# Altium footprint library PcbLib2.PcbLib: 7 footprints
Each footprint in its own frame and in the unit in brackets; x right, y up, seen from the top. Pads: shape width x height; smd on the part's side, far side on the other; paste and mask are expansions set on the pad; w line width, h text height; cw(c..) or ccw(c..) is an arc to the next point about the centre after c.
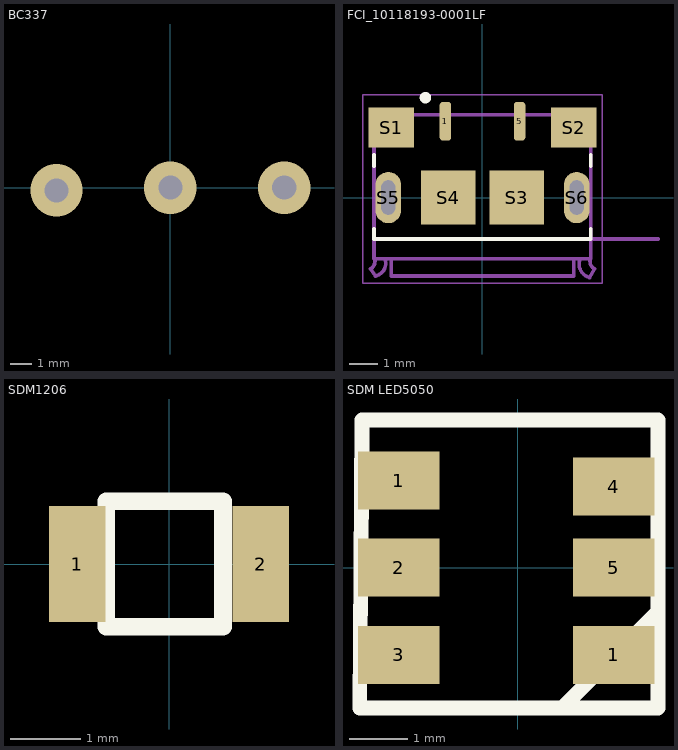
[diagram p0: the footprints below, top view; thin cyan lines are the x and y axes]

## BC337 [mm]
via -5.207,-0.127 diameter 2.4 hole 1.1
via 5.207,0 diameter 2.4 hole 1.1
via 0,0 diameter 2.4 hole 1.1
Multi-Layer:
  region: -6.921,-1.143 -6.921,0.889 -6.921,1.002 -6.877,1.222 -6.791,1.43 -6.666,1.618 -6.507,1.777 -6.32,1.902 -6.112,1.988 -5.891,2.032 -5.778,2.032 -4.635,2.032 -4.535,2.032 -4.339,1.993 -4.154,1.916 -3.988,1.805 -3.846,1.664 -3.735,1.497 -3.659,1.312 -3.62,1.116 -3.62,1.016 -3.619,-1.016 -3.619,-1.141 -3.668,-1.386 -3.764,-1.617 -3.903,-1.826 -4.08,-2.002 -4.288,-2.141 -4.519,-2.237 -4.764,-2.286 -4.89,-2.286 -5.778,-2.286 -5.891,-2.286 -6.112,-2.242 -6.32,-2.156 -6.507,-2.031 -6.666,-1.872 -6.791,-1.684 -6.878,-1.476 -6.921,-1.256
  region: 3.493,-1.016 3.493,1.016 3.493,1.129 3.537,1.349 3.623,1.557 3.748,1.745 3.907,1.904 4.094,2.029 4.302,2.115 4.523,2.159 4.636,2.159 5.779,2.159 5.879,2.159 6.075,2.12 6.26,2.043 6.426,1.932 6.568,1.791 6.679,1.624 6.755,1.439 6.794,1.243 6.794,1.143 6.795,-0.889 6.795,-1.014 6.746,-1.259 6.65,-1.49 6.511,-1.699 6.334,-1.875 6.126,-2.014 5.895,-2.11 5.65,-2.159 5.524,-2.159 4.636,-2.159 4.523,-2.159 4.302,-2.115 4.094,-2.029 3.907,-1.904 3.748,-1.745 3.623,-1.557 3.536,-1.349 3.493,-1.129
  region: -1.714,-1.016 -1.714,1.016 -1.714,1.129 -1.67,1.349 -1.584,1.557 -1.459,1.745 -1.3,1.904 -1.113,2.029 -0.905,2.115 -0.684,2.159 -0.571,2.159 0.572,2.159 0.672,2.159 0.868,2.12 1.053,2.043 1.219,1.932 1.361,1.791 1.472,1.624 1.548,1.439 1.587,1.243 1.587,1.143 1.588,-0.889 1.588,-1.014 1.539,-1.259 1.443,-1.49 1.304,-1.699 1.127,-1.875 0.919,-2.014 0.688,-2.11 0.443,-2.159 0.317,-2.159 -0.571,-2.159 -0.684,-2.159 -0.905,-2.115 -1.113,-2.029 -1.3,-1.904 -1.459,-1.745 -1.584,-1.557 -1.671,-1.349 -1.714,-1.129

## FCI_10118193-0001LF [mm]
pads (10):
  rrect50% 0.4x1.35 smd: 1(-1.3,2.675) 5(1.3,2.675)
  rect 1.6x1.4 smd: S1(-3.2,2.45) S2(3.2,2.45)
  rect 1.9x1.9 smd: S3(1.2,0) S4(-1.2,0)
  oval 0.9x1.8 hole 0.5 slot 1.2 at 90 deg: S5(-3.3,0) S6(3.3,0)
  round 0.5 hole 0.5 unplated: ""(-3.3,0) ""(3.3,0)
Top Overlay:
  circle w0.2: c-2,3.5 r0.1
  lines w0.127: -3.8,-1.45 3.8,-1.45 ; -3.8,-1.4 -3.8,-1.1 ; -3.8,1.1 -3.8,1.5 ; 3.8,-1.4 3.8,-1.1 ; 3.8,1.1 3.8,1.5
Mechanical 13:
  lines w0.127: -3.93,-2.5 -3.75,-2.75 ; -3.93,-2.5 ccw(c-4.065,-2.235) -3.8,-2.1 ; -3.746,-2.749 ccw(c-3.85,-2.3) -3.401,-2.196 ; -3.2,-2.2 -3.2,-2.75 3.2,-2.75 3.2,-2.2 ; 3.401,-2.198 ccw(c3.875,-2.325) 3.748,-2.799 ; 3.75,-2.8 3.93,-2.5 ; 3.8,-2.1 ccw(c4.065,-2.235) 3.93,-2.5 ; 6.15,-1.45 3.8,-1.45 ; -3.8,-2.1 -3.8,-2.15 3.8,-2.15 3.8,-1.45 ; -3.8,-2.1 -3.8,2.9 3.8,2.9 3.8,-1.45
  text "PCB END" at 4.75,-1.3 h0.41
Mechanical 15:
  lines w0.05: -4.2,-3 -4.2,3.6 4.2,3.6 4.2,-3 -4.2,-3
3D body "USB3075-30-A--3DModel-STEP-56544.STEP": height 2.7, standoff -1, extent -3.9,-2.775 3.9,2.775

## PCBComponent_1 [mm]

## PCBComponent_1 - duplicate [mm]

## SDM1206 [mm]
pads (2):
  rect 0.8x1.65 smd: 1(-1.3,0) 2(1.3,0)
Top Overlay:
  lines w0.254: -0.889,-0.889 0.762,-0.889 0.762,0.889 -0.889,0.889 -0.889,-0.889
3D body "1206.step": height 0.5, standoff 0, extent -1.6,-0.8 1.6,0.8

## SDM LED5050 [mm]
pads (6):
  rect 1.4x1 smd: 1(-2.05,1.5) 1(1.651,-1.5) 2(-2.05,0) 3(-2.05,-1.5) 4(1.651,1.397) 5(1.651,0)
Top Overlay:
  lines w0.254: 0.762,-2.413 2.413,-0.762 ; -2.72,-2.413 2.413,-2.413 2.413,2.54 -2.679,2.54 -2.69,1.25 -2.71,-1.25 -2.72,-2.413
3D body "LED SMD 5050 White.stp": height 1.62, standoff 0, extent -2.827,-2.46 2.573,2.54
3D body: height 0.25, standoff 0, extent 0,0 0,0

## VR1K [mm]
via 5,0 diameter 3.048 hole 1.3
via 0,0 diameter 3.048 hole 1.3
via -5,0 diameter 3.048 hole 1.3
3D body "Assem1.STEP": height 22.47, standoff -2.58, extent -8.5,-23.762 8.5,5.238